# Altium footprint library PcbLib1.PcbLib: 38 footprints (part 1 of 3)
Each footprint in its own frame and in the unit in brackets; x right, y up, seen from the top. Pads: shape width x height; smd on the part's side, far side on the other; paste and mask are expansions set on the pad; w line width, h text height; cw(c..) or ccw(c..) is an arc to the next point about the centre after c.
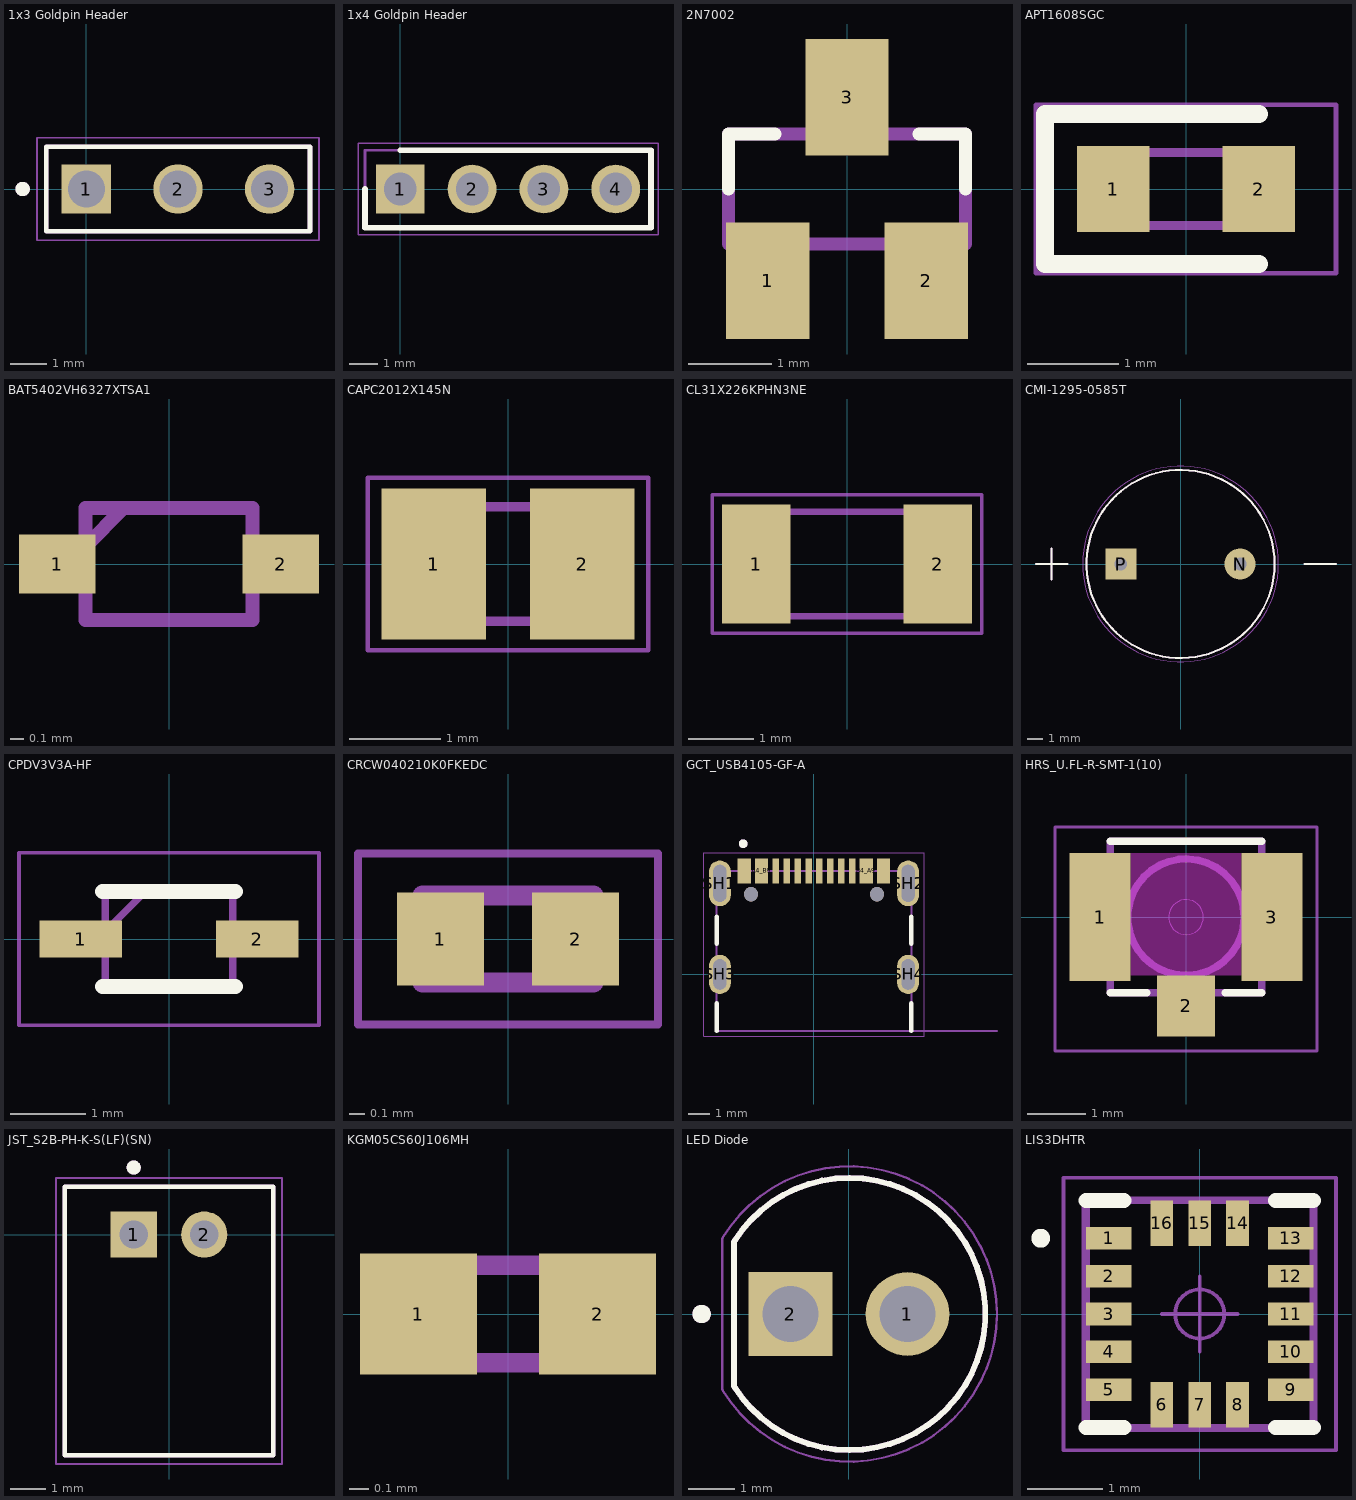
[diagram p0: the footprints below, top view; thin cyan lines are the x and y axes]

## 1x3 Goldpin Header [mm] "2.54mm"
pads (3):
  rect 1.37x1.37 / inner round 1.37 / far side rect 1.37x1.37 hole 1.02 mask+0.102: 1(0,0)
  round 1.37 hole 1.02 mask+0.102: 2(2.54,0) 3(5.08,0)
Top Overlay:
  circle w0.2: c-1.77,0 r0.1
  lines w0.127: -1.12,-1.17 -1.12,1.17 6.2,1.17 6.2,-1.17 -1.12,-1.17
Mechanical 13:
  circle w0.2: c-1.77,0 r0.1
  lines w0.127: -1.12,-1.17 -1.12,1.17 6.2,1.17 6.2,-1.17 ; -1.12,-1.17 6.2,-1.17 ; -1.12,-1.17 6.2,-1.17
Mechanical 15:
  lines w0.05: -1.37,-1.42 -1.37,1.42 6.45,1.42 6.45,-1.42 -1.37,-1.42
3D body "step_temp.STEP": height 10.06, standoff -2.77, extent -1.118,-1.168 6.198,1.168

## 1x4 Goldpin Header [mm] "2.54 mm"
pads (4):
  rect 1.725x1.725 / inner round 1.725 / far side rect 1.725x1.725 hole 1.15: 1(0,0)
  round 1.725 hole 1.15: 2(2.54,0) 3(5.08,0) 4(7.62,0)
Top Overlay:
  lines w0.2: -1.245,0 -1.245,-1.37 8.865,-1.37 8.865,1.37 0,1.37
Mechanical 15:
  lines w0.1: -1.245,-1.37 8.865,-1.37 8.865,1.37 -1.245,1.37 -1.245,-1.37
Mechanical 20:
  lines w0.05: -1.495,-1.62 9.115,-1.62 9.115,1.62 -1.495,1.62 -1.495,-1.62
3D body "22-10-2041.stp": height 10.41, standoff -3.81, extent -1.143,-1.181 8.763,1.181

## 2N7002 [mm] "Transistor"
pads (3):
  rect 1x1.4 smd: 1(-0.95,-1.1) 2(0.95,-1.1) 3(0,1.1)
Top Overlay:
  lines w0.152: -1.422,0 -1.422,0.66 -0.864,0.66 ; 0.864,0.66 1.422,0.66 1.422,0
Mechanical 13:
  region: 0.229,0.713 -0.229,0.713 -0.229,1.295 0.229,1.295
  region: 1.168,-1.297 0.712,-1.297 0.712,-0.711 1.168,-0.711
  region: -0.711,-1.296 -1.169,-1.296 -1.169,-0.711 -0.711,-0.711
  lines w0.152: -1.422,-0.66 1.422,-0.66 1.422,0.66 -1.422,0.66 -1.422,-0.66
3D body "step_temp.STEP": height 1.12, standoff 0, extent -1.46,-1.185 1.46,1.185

## APT1608SGC [mm] "0402 SMD LED"
pads (2):
  rect 0.8x0.95 smd: 1(-0.8,0) 2(0.8,0)
Top Overlay:
  lines w0.2: 0.8,-0.825 -1.55,-0.825 -1.55,0.825 0.8,0.825
Mechanical 15:
  lines w0.1: -0.8,0.133 -0.533,0.4 ; -0.8,-0.4 0.8,-0.4 0.8,0.4 -0.8,0.4 -0.8,-0.4
Mechanical 20:
  lines w0.05: -1.65,-0.925 1.65,-0.925 1.65,0.925 -1.65,0.925 -1.65,-0.925
3D body "APT1608SGC.stp": height 0.75, standoff -0.01, extent -0.8,-0.4 0.8,0.4

## BAT5402VH6327XTSA1 [mm] "Schottky"
pads (2):
  rect 0.55x0.42 smd: 1(-0.8,0) 2(0.8,0)
Mechanical 15:
  lines w0.1: -0.6,0.125 -0.325,0.4 ; -0.6,-0.4 -0.6,0.4 0.6,0.4 0.6,-0.4 -0.6,-0.4
3D body "BAT5402VH6327XTSA1.stp": height 0.55, standoff 0, extent -0.8,-0.4 0.8,0.4

## CAPC2012X145N [mm]
pads (2):
  rect 1.14x1.651 smd: 1(-0.81,0) 2(0.81,0)
Mechanical 15:
  lines w0.1: -1,-0.625 -1,0.625 1,0.625 1,-0.625 -1,-0.625
Mechanical 20:
  lines w0.05: -1.53,-0.94 -1.53,0.94 1.53,0.94 1.53,-0.94 -1.53,-0.94
3D body "C0805X106K8RACAUTO7210.stp": height 1.52, standoff -0.03, extent -1.167,-0.719 1.183,0.731

## CL31X226KPHN3NE [mm]
pads (2):
  rect 1.05x1.82 smd: 1(-1.39,0) 2(1.39,0)
Mechanical 15:
  lines w0.1: -1.6,-0.8 1.6,-0.8 1.6,0.8 -1.6,0.8 -1.6,-0.8
Mechanical 20:
  lines w0.05: -2.065,-1.06 2.065,-1.06 2.065,1.06 -2.065,1.06 -2.065,-1.06
3D body "CL31X226KPHN3NE.stp": height 1.8, standoff 0, extent -1.6,-0.8 1.6,0.8

## CMI-1295-0585T [mm] "Buzzer"
pads (2):
  round 2 hole 0.8: N(3.8,0)
  rect 2x2 / inner round 2 / far side rect 2x2 hole 0.8: P(-3.8,0)
Top Overlay:
  circle w0.127: c0,0 r6
  lines w0.127: -9.22,0 -7.22,0 ; -8.22,-1 -8.22,1 ; 7.92,0 9.92,0
Mechanical 13:
  circle w0.127: c0,0 r6
  lines w0.127: -9.22,0 -7.22,0 ; -8.22,-1 -8.22,1 ; 7.92,0 9.92,0
Mechanical 15:
  circle w0.05: c0,0 r6.25
3D body "step_temp.STEP": height 9, standoff -6, extent -6,-6 6,6

## CPDV3V3A-HF [mm]
pads (2):
  rect 1.1x0.5 smd: 1(-1.175,0) 2(1.175,0)
Top Overlay:
  lines w0.2: -0.889,-0.635 0.889,-0.635 ; -0.889,0.635 0.889,0.635
Mechanical 15:
  lines w0.1: -0.85,0.1 -0.3,0.65 ; -0.85,-0.65 -0.85,0.65 0.85,0.65 0.85,-0.65 -0.85,-0.65
Mechanical 20:
  lines w0.05: -2,-1.15 -2,1.15 2,1.15 2,-1.15 -2,-1.15
3D body "CPDV3V3A-HF.stp": height 1, standoff 0, extent -1.3,-0.65 1.3,0.65

## CRCW040210K0FKEDC [mm] "10k resistor"
pads (2):
  rect 0.56x0.6 smd: 1(-0.435,0) 2(0.435,0)
Mechanical 13:
  lines w0.127: -0.55,-0.28 0.55,-0.28 0.55,0.28 -0.55,0.28 -0.55,-0.28
Mechanical 15:
  lines w0.05: -0.965,-0.55 0.965,-0.55 0.965,0.55 -0.965,0.55 -0.965,-0.55
3D body "step_temp.STEP": height 0.35, standoff 0, extent -0.5,-0.25 0.5,0.25

## GCT_USB4105-GF-A [mm]
height 3.31
pads (18):
  rect 0.6x1.15 smd mask+0.05: A1_B12(-3.2,4.755) A4_B9(-2.4,4.755) B1_A12(3.2,4.755) B4_A9(2.4,4.755)
  rect 0.3x1.15 smd mask+0.05: A5(-1.25,4.755) A6(-0.25,4.755) A7(0.25,4.755) A8(1.25,4.755) B5(1.75,4.755) B6(0.75,4.755) B7(-0.75,4.755) B8(-1.75,4.755)
  oval 1x2.1 hole 0.6 slot 1.7 at 90 deg: SH1(-4.32,4.18) SH2(4.32,4.18)
  oval 1x1.8 hole 0.6 slot 1.4 at 90 deg: SH3(-4.32,0) SH4(4.32,0)
  round 0.65 hole 0.65 unplated: ""(-2.89,3.68) ""(2.89,3.68)
Top Overlay:
  circle w0.2: c-3.25,6 r0.1
  lines w0.2: -4.47,-2.6 -4.47,-1.32 ; -4.47,1.4 -4.47,2.65 ; 4.47,-2.6 4.47,-1.32 ; 4.47,1.4 4.47,2.65
Mechanical 13:
  circle w0.2: c-3.25,6 r0.1
  lines w0.1: 8.4,-2.6 4.47,-2.6 ; 4.47,-2.6 -4.47,-2.6 -4.47,4.75 4.47,4.75 4.47,-2.6
  text "PCB EDGE" at 5.4,-2.5 h0.41
Mechanical 15:
  lines w0.05: -5.07,-2.85 5.07,-2.85 5.07,5.58 -5.07,5.58 -5.07,-2.85
3D body "USB4105-GF-A--3DModel-STEP-510211.STEP": height 3.31, standoff -1.1, extent -4.47,-2.6 4.47,5.11

## HRS_U.FL-R-SMT-1(10) [mm]
pads (3):
  rect 1.05x2.2 smd: 1(-1.475,0) 3(1.475,0)
  rect 1x1.05 smd: 2(0,-1.525)
Top Overlay:
  lines w0.127: -1.3,-1.3 -0.67,-1.3 ; -1.3,1.3 1.3,1.3 ; 0.67,-1.3 1.3,-1.3
Keep-Out Layer:
  region: 0.95,-1 -0.95,-1 -0.95,1.1 0.95,1.1
Mechanical 13:
  circle w0.127: c0,0 r1
  circle w0: c0,0 r0.3
  lines w0.127: -1.3,-1.3 1.3,-1.3 1.3,1.3 -1.3,1.3 -1.3,-1.3
Mechanical 15:
  lines w0.05: -2.25,-2.3 2.25,-2.3 2.25,1.55 -2.25,1.55 -2.25,-2.3
3D body "U.FL-R-SMT-1(10)--3DModel-STEP-56544.STEP": height 1.25, standoff 0, extent -1.5,-1.55 1.5,1.55

## JST_S2B-PH-K-S(LF)(SN) [mm]
height 4.8
pads (2):
  rect 1.308x1.308 / inner round 1.308 / far side rect 1.308x1.308 hole 0.8 mask+0.102: 1(-1,0)
  round 1.308 hole 0.8 mask+0.102: 2(1,0)
Top Overlay:
  circle w0.2: c-1,1.9 r0.1
  lines w0.127: -2.95,-6.25 2.95,-6.25 2.95,1.35 -2.95,1.35 -2.95,-6.25
Mechanical 13:
  circle w0.2: c-1,1.9 r0.1
  lines w0.127: -2.95,-6.25 2.95,-6.25 2.95,1.35 -2.95,1.35 -2.95,-6.25
Mechanical 15:
  lines w0.05: -3.2,-6.5 3.2,-6.5 3.2,1.6 -3.2,1.6 -3.2,-6.5
3D body "step_temp.STEP": height 4.8, standoff -3.38, extent -2.979,-6.213 2.921,1.387

## KGM05CS60J106MH [mm] "10 uF"
pads (2):
  rect 0.6x0.62 smd: 1(-0.46,0) 2(0.46,0)
Mechanical 15:
  lines w0.1: -0.5,-0.25 -0.5,0.25 0.5,0.25 0.5,-0.25 -0.5,-0.25
3D body "MLASU105SB7104KFNB25.stp": height 0.55, standoff 0, extent -0.5,-0.25 0.5,0.25

## LED Diode [mm]
height 10.7
pads (2):
  round 1.815 hole 1.21: 1(1.27,0)
  rect 1.815x1.815 / inner round 1.815 / far side rect 1.815x1.815 hole 1.21: 2(-1.27,0)
Top Overlay:
  circle w0.2: c-3.2,0 r0.1
  lines w0.127: -2.5,-1.566 ccw(c0.006,0) -2.5,1.566 -2.5,-1.566
Mechanical 13:
  circle w0.2: c-3.2,0 r0.1
  lines w0.127: -2.5,-1.566 ccw(c0.006,0) -2.5,1.566 -2.5,-1.566
Mechanical 15:
  lines w0.05: -2.75,-1.64 -2.75,1.64 ; -2.743,-1.652 ccw(c0.007,0) -2.743,1.652
3D body "step_temp.STEP": height 9.1, standoff -17.8, extent -2.6,-2.95 2.95,2.95

## LIS3DHTR [mm]
pads (16):
  rect 0.6x0.3 smd: 1(-1.2,1) 2(-1.2,0.5) 3(-1.2,0) 4(-1.2,-0.5) 5(-1.2,-1) 9(1.2,-1) 10(1.2,-0.5) 11(1.2,0) 12(1.2,0.5) 13(1.2,1)
  rect 0.3x0.6 smd: 6(-0.5,-1.2) 7(0,-1.2) 8(0.5,-1.2) 14(0.5,1.2) 15(0,1.2) 16(-0.5,1.2)
Top Overlay:
  lines w0.125: -2.163,1.001 cw(c-2.101,1.001) -2.039,1.001 cw(c-2.101,1.001) -2.163,1.001
  lines w0.2: -1.5,-1.5 -1,-1.5 ; -1.5,1.5 -1,1.5 ; 1,-1.5 1.5,-1.5 ; 1,1.5 1.5,1.5
Mechanical 15:
  lines w0.1: -1.5,-1.5 -1.5,1.5 1.5,1.5 1.5,-1.5 -1.5,-1.5
Mechanical 20:
  lines w0.05: -0.5,0 0.5,0 ; 0,-0.5 0,0.5 ; -1.8,-1.8 -1.8,1.8 1.8,1.8 1.8,-1.8 -1.8,-1.8 ; -0.325,0 cw(c0,0) 0.325,0 cw(c0,0) -0.325,0
Mechanical 21:
  lines w0.001: -1.55,-1.55 -1.55,1.55 1.55,1.55 1.55,-1.55 -1.55,-1.55
3D body "LIS3DHTR.stp": height 1, standoff 0, extent -1.5,-1.5 1.5,1.5